# Altium footprint library Varistor.PcbLib: 12 footprints
Each footprint in its own frame and in the unit in brackets; x right, y up, seen from the top. Pads: shape width x height; smd on the part's side, far side on the other; paste and mask are expansions set on the pad; w line width, h text height; cw(c..) or ccw(c..) is an arc to the next point about the centre after c.
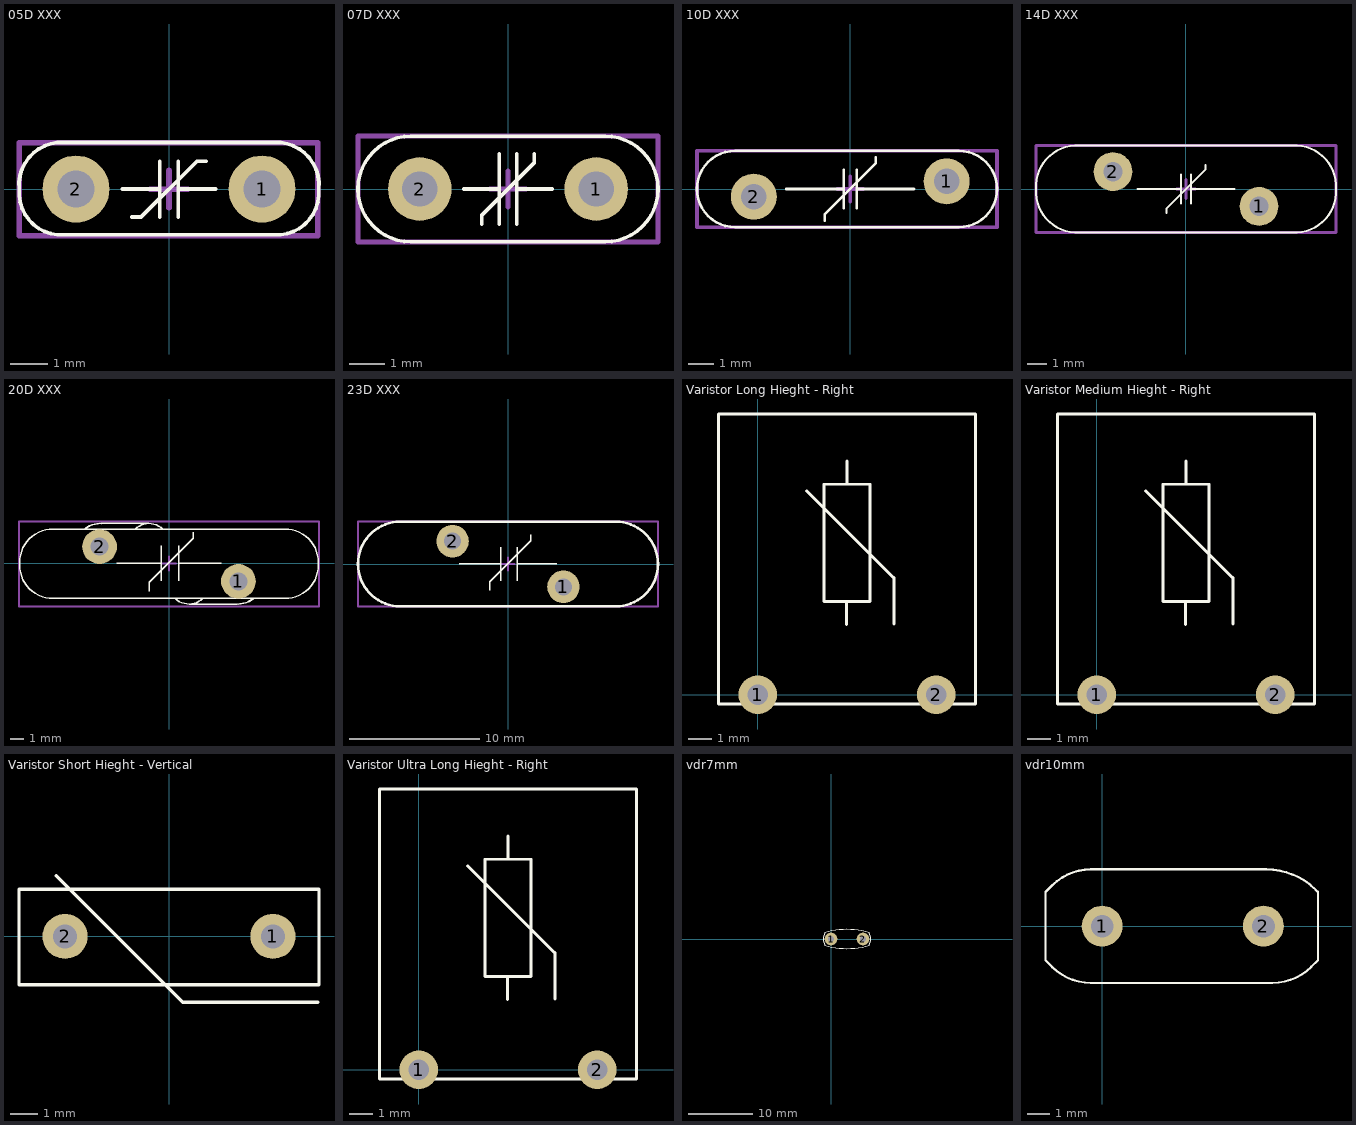
[diagram p0: the footprints below, top view; thin cyan lines are the x and y axes]

## 05D XXX [mm] "MOV-05DxxxK Metal Oxide Varistors (MOVs) are 5 mm-Design:Abbas Basereh"
height 8
pads (2):
  round 1.8 hole 1: 1(2.5,0) 2(-2.5,0)
Top Overlay:
  lines w0.1: -1.25,0 -0.25,0 ; -1,-0.75 -0.75,-0.75 0.75,0.75 1,0.75 ; -0.25,-0.75 -0.25,0.75 ; 0.25,-0.75 0.25,0.75 ; 0.25,0 1.25,0 ; -4.025,0 ccw(c-2.9,-0.1) -3,-1.225 3,-1.225 ccw(c2.9,-0.1) 4.025,0 ccw(c2.887,0.112) 3,1.25 -3,1.25 ccw(c-2.887,0.112) -4.025,0
Mechanical 15:
  lines w0.15: -0.5,0 0.5,0 ; 0,-0.5 0,0.5 ; -4.025,-1.25 4,-1.25 4,1.25 -4.025,1.25 -4.025,-1.25
3D body "User Library-Warystor_5mm.STEP": height 11, standoff -1.57, extent -4.01,-1.26 3.99,1.25

## 07D XXX [mm] "MOV-07DxxxK Metal Oxide Varistors (MOVs) are 7 mm-Design:Abbas Basereh"
height 11
pads (2):
  round 1.8 hole 1: 1(2.5,0) 2(-2.5,0)
Top Overlay:
  lines w0.1: -1.25,0 -0.25,0 ; -0.75,-1 -0.75,-0.75 0.75,0.75 0.75,1 ; -0.25,-1 -0.25,1 ; 0.25,-1 0.25,1 ; 0.25,0 1.25,0 ; -2.75,1.5 ccw(c-2.75,0) -4.25,0 ccw(c-2.75,0) -2.75,-1.5 2.75,-1.5 ; -2.75,1.5 2.75,1.5 cw(c2.75,0) 4.25,0 cw(c2.75,0) 2.75,-1.5 ; -2.75,1.5 -2.75,1.5 ; 2.75,-1.5 2.75,-1.5
Mechanical 15:
  lines w0.15: -0.5,0 0.5,0 ; 0,-0.5 0,0.5 ; -4.25,-1.5 4.25,-1.5 4.25,1.5 -4.25,1.5 -4.25,-1.5
3D body "User Library-Warystor_5mm.STEP": height 11, standoff -1.57, extent -4,-1.26 4,1.25

## 10D XXX [mm] "MOV-10DxxxK Metal Oxide Varistors (MOVs) are 10 mm-Design:Abbas Basereh"
height 14.5
pads (2):
  round 1.8 hole 1: 1(3.775,0.3) 2(-3.775,-0.3)
Top Overlay:
  lines w0.1: -2.5,0 -0.25,0 ; -1,-1.25 -1,-1 1,1 1,1.25 ; -0.25,-0.75 -0.25,0.75 ; 0.25,-0.75 0.25,0.75 ; 0.25,0 2.5,0 ; 4.25,-1.5 ccw(c4.25,0) 5.75,0 ccw(c4.25,0) 4.25,1.5 -4.5,1.5 ccw(c-4.5,0) -6,0 ccw(c-4.5,0) -4.5,-1.5 4.25,-1.5 ; 4.25,-1.5 4.25,-1.5
Mechanical 15:
  lines w0.15: -0.5,0 0.5,0 ; 0,-0.5 0,0.5 ; -6,-1.5 -6,1.5 5.75,1.5 5.75,-1.5 -6,-1.5
3D body "User Library-final MOV7,5.STEP": height 16.5, standoff -2, extent -5.776,-0.95 5.525,0.9

## 14D XXX [mm] "MOV-14DxxxK Metal Oxide Varistors (MOVs) are 14 mm-Design:Abbas Basereh"
height 19.5
pads (2):
  round 2 hole 1: 1(3.775,-0.9) 2(-3.775,0.9)
Top Overlay:
  lines w0.1: -2.5,0 -0.25,0 ; -1,-1.25 -1,-1 1,1 1,1.25 ; -0.25,-0.75 -0.25,0.75 ; 0.25,-0.75 0.25,0.75 ; 0.25,0 2.5,0 ; -7.75,0 ccw(c-5.625,-0.125) -5.75,-2.25 5.75,-2.25 ccw(c5.625,-0.125) 7.75,0 ccw(c5.625,0.125) 5.75,2.25 -5.75,2.25 ccw(c-5.625,0.125) -7.75,0
Mechanical 15:
  lines w0.15: -0.5,0 0.5,0 ; 0,-0.5 0,0.5 ; -7.75,-2.25 -7.75,2.25 7.75,2.25 7.75,-2.25 -7.75,-2.25
3D body "alsrobot-S14K25 MOV.STEP": height 19.5, standoff -2, extent -7.725,-2.1 7.775,2.1

## 20D XXX [mm] "MOV-20DxxxK Metal Oxide Varistors (MOVs) are 20 mm-Design:Abbas Basereh"
height 23.5
pads (2):
  round 2.5 hole 1.3: 1(5,-1.3) 2(-5,1.2)
Top Overlay:
  drawing of 162 lines, arcs and shapes, not listed
Mechanical 15:
  lines w0.15: -0.5,0 0.5,0 ; 0,-0.5 0,0.5 ; -10.8,-3.1 10.8,-3.1 10.8,3 -10.8,3 -10.8,-3.1
3D body "User Library-Varistor_20mm.STEP": height 25.5, standoff -1.99, extent -10.756,-2.898 10.744,2.9

## 23D XXX [mm] "MOV-23DxxxK Metal Oxide Varistors (MOVs) are 23 mm-Design:Abbas Basereh"
height 29.5
pads (2):
  round 2.5 hole 1.3: 1(4.25,-1.75) 2(-4.25,1.75)
Top Overlay:
  lines w0.1: -3.75,0 -0.57,0 ; -1.415,-2 -1.415,-1.365 1.75,1.8 1.75,2.25 ; -0.57,-1.27 -0.57,1.27 ; 0.7,-1.27 0.7,1.27 ; 0.7,0 3.75,0
  lines w0.2: -11.5,0 ccw(c-8.25,0) -8.25,-3.25 8.25,-3.25 ccw(c8.25,0) 11.5,0 ccw(c8.25,0) 8.25,3.25 -8.25,3.25 ccw(c-8.25,0) -11.5,0
Mechanical 15:
  lines w0.15: -0.5,0 0.5,0 ; 0,-0.5 0,0.5 ; -11.5,-3.25 -11.5,3.25 11.5,3.25 11.5,-3.25 -11.5,-3.25
3D body "User Library-V275LA40AP.STEP": height 28, standoff -2, extent -11.5,-2.8 11.5,2.8

## Varistor Long Hieght - Right [mil] "JVR10N331k With Long Hieght Legs and Right Angle"
pads (2):
  round 65 hole 35: 1(0,0) 2(300,0)
Top Overlay:
  lines w5: 82,343 228,197 229,197 229,119 ; 149,118 149,157 ; 150,354 150,393 ; -66.54,-16 366.54,-16 366.54,472.19 -66.54,472.19 -66.54,-16 ; 111,157 189,157 189,354 111,354 111,157
3D body "JVR10N331k_long_2009.STEP": height 349.69, standoff -98.43, extent -66.54,-16 366.54,472.19

## Varistor Medium Hieght - Right [mil] "JVR10N331k With Medium Hieght Legs and Right Angle"
pads (2):
  round 65 hole 35: 1(0,0) 2(300,0)
Top Overlay:
  lines w5: 82,343 228,197 229,197 229,119 ; 149,118 149,157 ; 150,354 150,393 ; -66.54,-16 -66.54,472.19 366.54,472.19 366.54,-16 -66.54,-16 ; 111,157 111,354 189,354 189,157 111,157
3D body "JVR10N331k_medium_2009.STEP": height 270.7, standoff -98.43, extent -66.54,-16 366.54,472.19

## Varistor Short Hieght - Vertical [mil]
pads (2):
  round 65 hole 35: 1(150,0) 2(-150,0)
Top Overlay:
  lines w5: -162.5,87.5 20,-95 215,-95 ; -216.47,-69.99 216.43,-69.99 216.43,68.36 -216.47,68.36 -216.47,-69.99
3D body "JVR10N331k_vertical.STEP": height 472.44, standoff -98.43, extent -216.47,-69.99 216.43,68.36

## Varistor Ultra Long Hieght - Right [mil] "JVR10N331k With Medium Hieght Legs and Right Angle"
pads (2):
  round 65 hole 35: 1(0,0) 2(300,0)
Top Overlay:
  lines w5: 82,343 228,197 229,197 229,119 ; 149,118 149,157 ; 150,354 150,393 ; -66.54,-16 366.54,-16 366.54,472.19 -66.54,472.19 -66.54,-16 ; 111,157 189,157 189,354 111,354 111,157
3D body "JVR10N331k_untra long_2009.STEP": height 664.15, standoff -98.43, extent -66.54,-16 366.54,472.19

## vdr7mm [mm]
pads (2):
  round 2 hole 1: 1(0,0) 2(5,0)
Top Overlay:
  lines w0.1: -1,-1 ccw(c2.5,11) 6,-1 ccw(c3.731,-0.026) 5.973,1.008 ccw(c2.5,-11) -1,1 ccw(c1.269,0.026) -0.973,-1.008

## vdr10mm [mm] "VDR10MM"
pads (2):
  round 1.8 hole 1: 1(0,0) 2(7.1,0)
Top Overlay:
  lines w0.1: -2.5,-1.5 -2.5,1.5 -2.207,1.793 cw(c-0.5,0.086) -0.5,2.5 3.5,2.5 7.23,2.5 cw(c7.23,-0.566) 9.398,1.602 9.5,1.5 9.5,-1.5 9.207,-1.793 cw(c7.5,-0.086) 7.5,-2.5 -0.5,-2.5 cw(c-0.5,-0.086) -2.207,-1.793 -2.5,-1.5